# EAGLE library part AWHW10-G-SMD-R (library con-assmann)
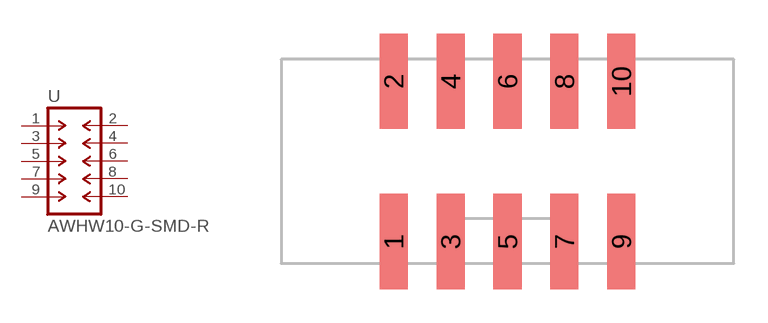
[diagram p13: symbol with the pads of AWHSMD10; footprint AWHSMD10]

Designator prefix -

## AWHW10-G-SMD-R  [AWHSMD10]
1  1  pas
2  2  pas
3  3  pas
4  4  pas
5  5  pas
6  6  pas
7  7  pas
8  8  pas
9  9  pas
10  10  pas

## Footprint AWHSMD10 (pad centres in mm)
smd 1.25 x 4.25: 1 -5.08,-3.575; 2 -5.08,3.575; 3 -2.54,-3.575; 4 -2.54,3.575; 5 0,-3.575; 6 0,3.575; 7 2.54,-3.575; 8 2.54,3.575; 9 5.08,-3.575; 10 5.08,3.575